# EAGLE library part ADC128D818 (library dawa_v5.1)
ADC
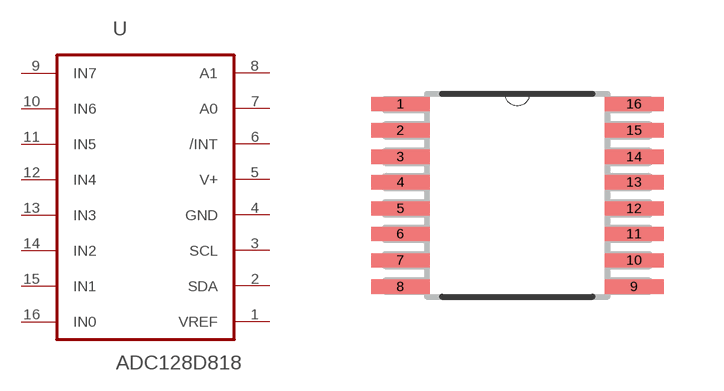
[diagram p0: symbol with the pads of SOP65P640X120-16N; footprint SOP65P640X120-16N]

Designator prefix U

## ADC128D818  [SOP65P640X120-16N]
1  VREF  pwr
2  SDA
3  SCL
4  GND
5  V+
6  /INT  out
7  A0  in
8  A1  in
9  IN7  in
10  IN6  in
11  IN5  in
12  IN4  in
13  IN3  in
14  IN2  in
15  IN1  in
16  IN0  in

## Footprint SOP65P640X120-16N (pad centres in mm)
smd 1.473 x 0.356: 1 -2.921,2.286; 2 -2.921,1.626; 3 -2.921,0.965; 4 -2.921,0.33; 5 -2.921,-0.33; 6 -2.921,-0.965; 7 -2.921,-1.626; 8 -2.921,-2.286; 9 2.921,-2.286; 10 2.921,-1.626; 11 2.921,-0.965; 12 2.921,-0.33; 13 2.921,0.33; 14 2.921,0.965; 15 2.921,1.626; 16 2.921,2.286